# Altium integrated library WE-SL2_rev15a.intlib: 14 symbols
Pins are listed as number, name and electrical type; pins without a type are passive.

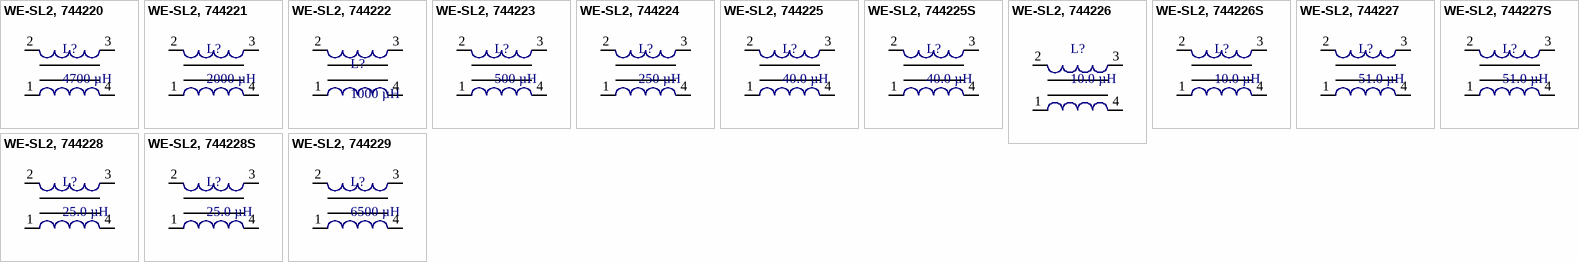
[diagram p0: symbols WE-SL2, 744220 to WE-SL2, 744229]

## WE-SL2, 744220
designator L?, comment 4700 µH
SMD Common Mode Line Filter WE-SL2, L=4700 µH; partNo: 744220; Manufacturer: Würth Elektronik eiSos GmbH; Inductance: 4700 µH; ComponentLink1Description: Manufacturer; ComponentLink1URL: http://www.we-online.de; Created by: Christin Zierenner; Created Date: November 2009; ComponentLink2Description: Datasheet; ComponentLink2URL: http://www.we-online.de/katalog/media/pdf/744220.pdf
footprint WE-SL2 (SMD Inductor, 4-Leads, Body 6,3x9,5mm)
pins: 1, 2, 3, 4

## WE-SL2, 744221
designator L?, comment 2000 µH
SMD Common Mode Line Filter WE-SL2, L=2000 µH; partNo: 744221; Manufacturer: Würth Elektronik eiSos GmbH; Inductance: 2000 µH; ComponentLink1Description: Manufacturer; ComponentLink1URL: http://www.we-online.de; Created by: Christin Zierenner; Created Date: November 2009; ComponentLink2Description: Datasheet; ComponentLink2URL: http://www.we-online.de/katalog/media/pdf/744221.pdf
footprint WE-SL2 (SMD Inductor, 4-Leads, Body 6,3x9,5mm)
pins: 1, 2, 3, 4

## WE-SL2, 744222
designator L?, comment 1000 µH
SMD Common Mode Line Filter WE-SL2, L=1000 µH; partNo: 744222; Manufacturer: Würth Elektronik eiSos GmbH; Inductance: 1000 µH; ComponentLink1Description: Manufacturer; ComponentLink1URL: http://www.we-online.de; Created by: Christin Zierenner; Created Date: November 2009; ComponentLink2Description: Datasheet; ComponentLink2URL: http://www.we-online.de/katalog/media/pdf/744222.pdf
footprint WE-SL2 (SMD Inductor, 4-Leads, Body 6,3x9,5mm)
pins: 1, 2, 3, 4

## WE-SL2, 744223
designator L?, comment 500 µH
SMD Common Mode Line Filter WE-SL2, L=500 µH; partNo: 744223; Manufacturer: Würth Elektronik eiSos GmbH; Inductance: 500 µH; ComponentLink1Description: Manufacturer; ComponentLink1URL: http://www.we-online.de; Created by: Christin Zierenner; Created Date: November 2009; ComponentLink2Description: Datasheet; ComponentLink2URL: http://www.we-online.de/katalog/media/pdf/744223.pdf
footprint WE-SL2 (SMD Inductor, 4-Leads, Body 6,3x9,5mm)
pins: 1, 2, 3, 4

## WE-SL2, 744224
designator L?, comment 250 µH
SMD Common Mode Line Filter WE-SL2, L=250 µH; partNo: 744224; Manufacturer: Würth Elektronik eiSos GmbH; Inductance: 250 µH; ComponentLink1Description: Manufacturer; ComponentLink1URL: http://www.we-online.de; Created by: Christin Zierenner; Created Date: November 2009; ComponentLink2Description: Datasheet; ComponentLink2URL: http://www.we-online.de/katalog/media/pdf/744224.pdf
footprint WE-SL2 (SMD Inductor, 4-Leads, Body 6,3x9,5mm)
pins: 1, 2, 3, 4

## WE-SL2, 744225
designator L?, comment 40.0 µH
SMD Common Mode Line Filter WE-SL2, L=40.0 µH; partNo: 744225; Manufacturer: Würth Elektronik eiSos GmbH; Inductance: 40.0 µH; ComponentLink1Description: Manufacturer; ComponentLink1URL: http://www.we-online.de; Created by: Christin Zierenner; Created Date: November 2009; ComponentLink2Description: Datasheet; ComponentLink2URL: http://www.we-online.de/katalog/media/pdf/744225.pdf
footprint WE-SL2 (SMD Inductor, 4-Leads, Body 6,3x9,5mm)
pins: 1, 2, 3, 4

## WE-SL2, 744225S
designator L?, comment 40.0 µH
SMD Common Mode Line Filter WE-SL2, L=40.0 µH; partNo: 744225S; Manufacturer: Würth Elektronik eiSos GmbH; Inductance: 40.0 µH; ComponentLink1Description: Manufacturer; ComponentLink1URL: http://www.we-online.de; Created by: Christin Zierenner; Created Date: November 2009; ComponentLink2Description: Datasheet; ComponentLink2URL: http://www.we-online.de/katalog/media/pdf/744225S.pdf
footprint WE-SL2 (SMD Inductor, 4-Leads, Body 6,3x9,5mm)
pins: 1, 2, 3, 4

## WE-SL2, 744226
designator L?, comment 10.0 µH
SMD Common Mode Line Filter WE-SL2, L=10.0 µH; partNo: 744226; Manufacturer: Würth Elektronik eiSos GmbH; Inductance: 10.0 µH; ComponentLink1Description: Manufacturer; ComponentLink1URL: http://www.we-online.de; Created by: Christin Zierenner; Created Date: November 2009; ComponentLink2Description: Datasheet; ComponentLink2URL: http://www.we-online.de/katalog/media/pdf/744226.pdf
footprint WE-SL2 (SMD Inductor, 4-Leads, Body 6,3x9,5mm)
pins: 1, 2, 3, 4

## WE-SL2, 744226S
designator L?, comment 10.0 µH
SMD Common Mode Line Filter WE-SL2, L=10.0 µH; partNo: 744226S; Manufacturer: Würth Elektronik eiSos GmbH; Inductance: 10.0 µH; ComponentLink1Description: Manufacturer; ComponentLink1URL: http://www.we-online.de; Created by: Christin Zierenner; Created Date: November 2009; ComponentLink2Description: Datasheet; ComponentLink2URL: http://www.we-online.de/katalog/media/pdf/744226S.pdf
footprint WE-SL2 (SMD Inductor, 4-Leads, Body 6,3x9,5mm)
pins: 1, 2, 3, 4

## WE-SL2, 744227
designator L?, comment 51.0 µH
SMD Common Mode Line Filter WE-SL2, L=51.0 µH; partNo: 744227; Manufacturer: Würth Elektronik eiSos GmbH; Inductance: 51.0 µH; ComponentLink1Description: Manufacturer; ComponentLink1URL: http://www.we-online.de; Created by: Christin Zierenner; Created Date: November 2009; ComponentLink2Description: Datasheet; ComponentLink2URL: http://www.we-online.de/katalog/media/pdf/744227.pdf
footprint WE-SL2 (SMD Inductor, 4-Leads, Body 6,3x9,5mm)
pins: 1, 2, 3, 4

## WE-SL2, 744227S
designator L?, comment 51.0 µH
SMD Common Mode Line Filter WE-SL2, L=51.0 µH; partNo: 744227S; Manufacturer: Würth Elektronik eiSos GmbH; Inductance: 51.0 µH; ComponentLink1Description: Manufacturer; ComponentLink1URL: http://www.we-online.de; Created by: Christin Zierenner; Created Date: November 2009; ComponentLink2Description: Datasheet; ComponentLink2URL: http://www.we-online.de/katalog/media/pdf/744227S.pdf
footprint WE-SL2 (SMD Inductor, 4-Leads, Body 6,3x9,5mm)
pins: 1, 2, 3, 4

## WE-SL2, 744228
designator L?, comment 25.0 µH
SMD Common Mode Line Filter WE-SL2, L=25.0 µH; partNo: 744228; Manufacturer: Würth Elektronik eiSos GmbH; Inductance: 25.0 µH; ComponentLink1Description: Manufacturer; ComponentLink1URL: http://www.we-online.de; Created by: Christin Zierenner; Created Date: November 2009; ComponentLink2Description: Datasheet; ComponentLink2URL: http://www.we-online.de/katalog/media/pdf/744228.pdf
footprint WE-SL2 (SMD Inductor, 4-Leads, Body 6,3x9,5mm)
pins: 1, 2, 3, 4

## WE-SL2, 744228S
designator L?, comment 25.0 µH
SMD Common Mode Line Filter WE-SL2, L=25.0 µH; partNo: 744228S; Manufacturer: Würth Elektronik eiSos GmbH; Inductance: 25.0 µH; ComponentLink1Description: Manufacturer; ComponentLink1URL: http://www.we-online.de; Created by: Christin Zierenner; Created Date: November 2009; ComponentLink2Description: Datasheet; ComponentLink2URL: http://www.we-online.de/katalog/media/pdf/744228S.pdf
footprint WE-SL2 (SMD Inductor, 4-Leads, Body 6,3x9,5mm)
pins: 1, 2, 3, 4

## WE-SL2, 744229
designator L?, comment 6500 µH
SMD Common Mode Line Filter WE-SL2, L=6500 µH; partNo: 744229; Manufacturer: Würth Elektronik eiSos GmbH; Inductance: 6500 µH; ComponentLink1Description: Manufacturer; ComponentLink1URL: http://www.we-online.de; Created by: Christin Zierenner; Created Date: November 2009; ComponentLink2Description: Datasheet; ComponentLink2URL: http://www.we-online.de/katalog/media/pdf/744229.pdf
footprint WE-SL2 (SMD Inductor, 4-Leads, Body 6,3x9,5mm)
pins: 1, 2, 3, 4